# EAGLE library part 690357280676 (library Wurth_Elektronik2)
WR-MM Male SMT Connector without Latch and without Polarization, 6 pins=>Code : Con_BTB_MM_SMT_690357280676 <http://katalog.we-online.de/media/thumbs2/eican/thb_Con_BTB_MM_SMT_69035728xx76_pf2.jpg> Details see: http://katalog.we-online.de/en/em/6903_5728_xx_76 Created 2014-06-04, Karrer Zheng 2014 (C) Würth Elektronik
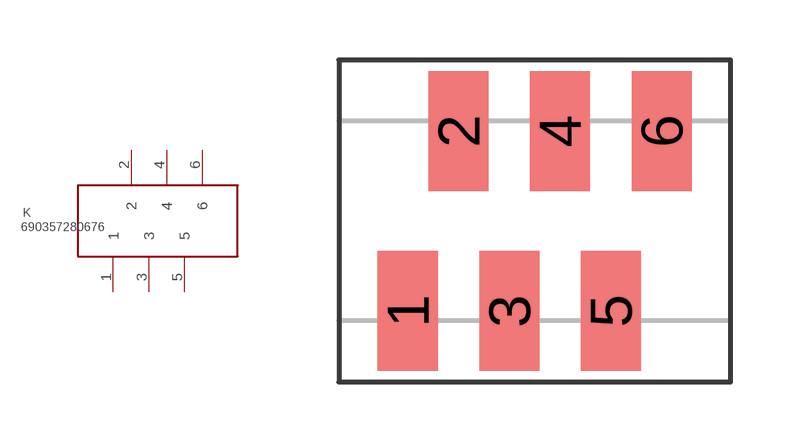
[diagram p332: symbol with the pads of 690357280676; footprint 690357280676]

Designator prefix K

## 690357280676  [690357280676]
1  1  pas
2  2  pas
3  3  pas
4  4  pas
5  5  pas
6  6  pas

## Footprint 690357280676 (pad centres in mm)
WR-MM Male SMT Connector without Latch and without Polarization, 6 pins
smd 1.5 x 3: 1 -2.54,-2.25; 2 -1.27,2.25; 3 0,-2.25; 4 1.27,2.25; 5 2.54,-2.25; 6 3.81,2.25